# Altium schematic symbol library HT7833.SchLib: 1 symbol
Pins are listed as number, name and electrical type; pins without a type are passive.

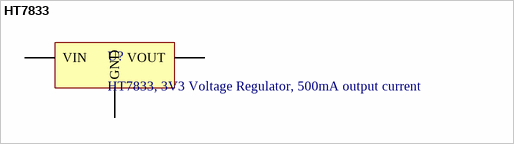
[diagram p0: symbol HT7833]

## HT7833
designator U?, comment HT7833, 3V3 Voltage Regulator, 500mA output current
footprint HT7833 (SOT89, 3-Leads)
pins: 1 GND, 2 VIN, 3 VOUT